# Altium schematic symbol library Schlib1.SchLib: 2 symbols
Pins are listed as number, name and electrical type; pins without a type are passive.

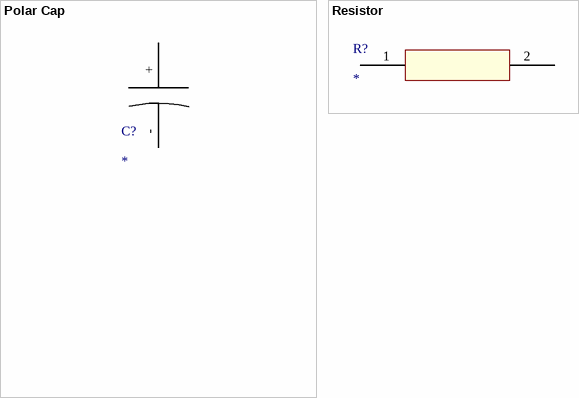
[diagram p0: symbols Polar Cap to Resistor]

## Polar Cap
designator C?
footprint Polar Cap
pins: + 2, - 3

## Resistor
designator R?
footprint Resistor
pins: 1 "Dis", 2 "Dis"